# EAGLE library part MICROSD (library worth)
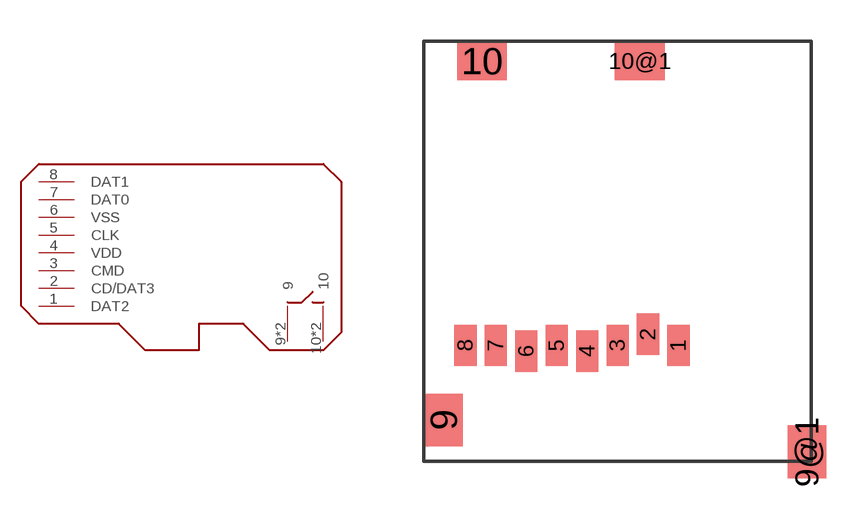
[diagram p0: symbol with the pads of MICROSD; footprint MICROSD]

Designator prefix -

## MICROSD  [MICROSD]
1  DAT2
2  CD/DAT3
3  CMD
4  VDD
5  CLK
6  VSS
7  DAT0
8  DAT1
9  9
9@1  9
10  10
10@1  10

## Footprint MICROSD (pad centres in mm)
smd 0.8 x 1.5: 1 9.2,-11; 2 8.1,-10.6; 3 7,-11; 4 5.9,-11.2; 5 4.8,-11; 6 3.7,-11.2; 7 2.6,-11; 8 1.5,-11
smd 1.4 x 1.9: 9 0.7,-13.7; 9@1 13.85,-14.85
smd 1.8 x 1.4: 10 2.1,-0.7; 10@1 7.8,-0.7